# EAGLE library part HEX_CONVERTER (library Schuyler)
Just what it says.
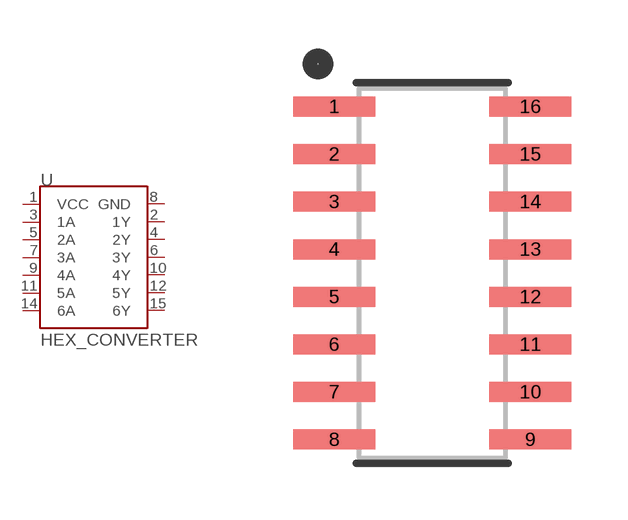
[diagram p27: symbol with the pads of SO-16_SSG; footprint SO-16_SSG]

Designator prefix U

## HEX_CONVERTERS  [SO-16_SSG]
1  VCC
2  1Y
3  1A
4  2Y
5  2A
6  3Y
7  3A
8  GND
9  4A
10  4Y
11  5A
12  5Y
14  6A
15  6Y

## Footprint SO-16_SSG (pad centres in mm)
SO-16 as described by STMicro. http://www.st.com/web/en/resource/technical/document/datasheet/CD00001703.pdf
smd 2.184 x 0.533: 1 -2.616,4.445; 2 -2.616,3.175; 3 -2.616,1.905; 4 -2.616,0.635; 5 -2.616,-0.635; 6 -2.616,-1.905; 7 -2.616,-3.175; 8 -2.616,-4.445; 9 2.616,-4.445; 10 2.616,-3.175; 11 2.616,-1.905; 12 2.616,-0.635; 13 2.616,0.635; 14 2.616,1.905; 15 2.616,3.175; 16 2.616,4.445